# Altium schematic symbol library Pneumatics_Board_Library.SchLib: 6 symbols
Pins are listed as number, name and electrical type; pins without a type are passive.

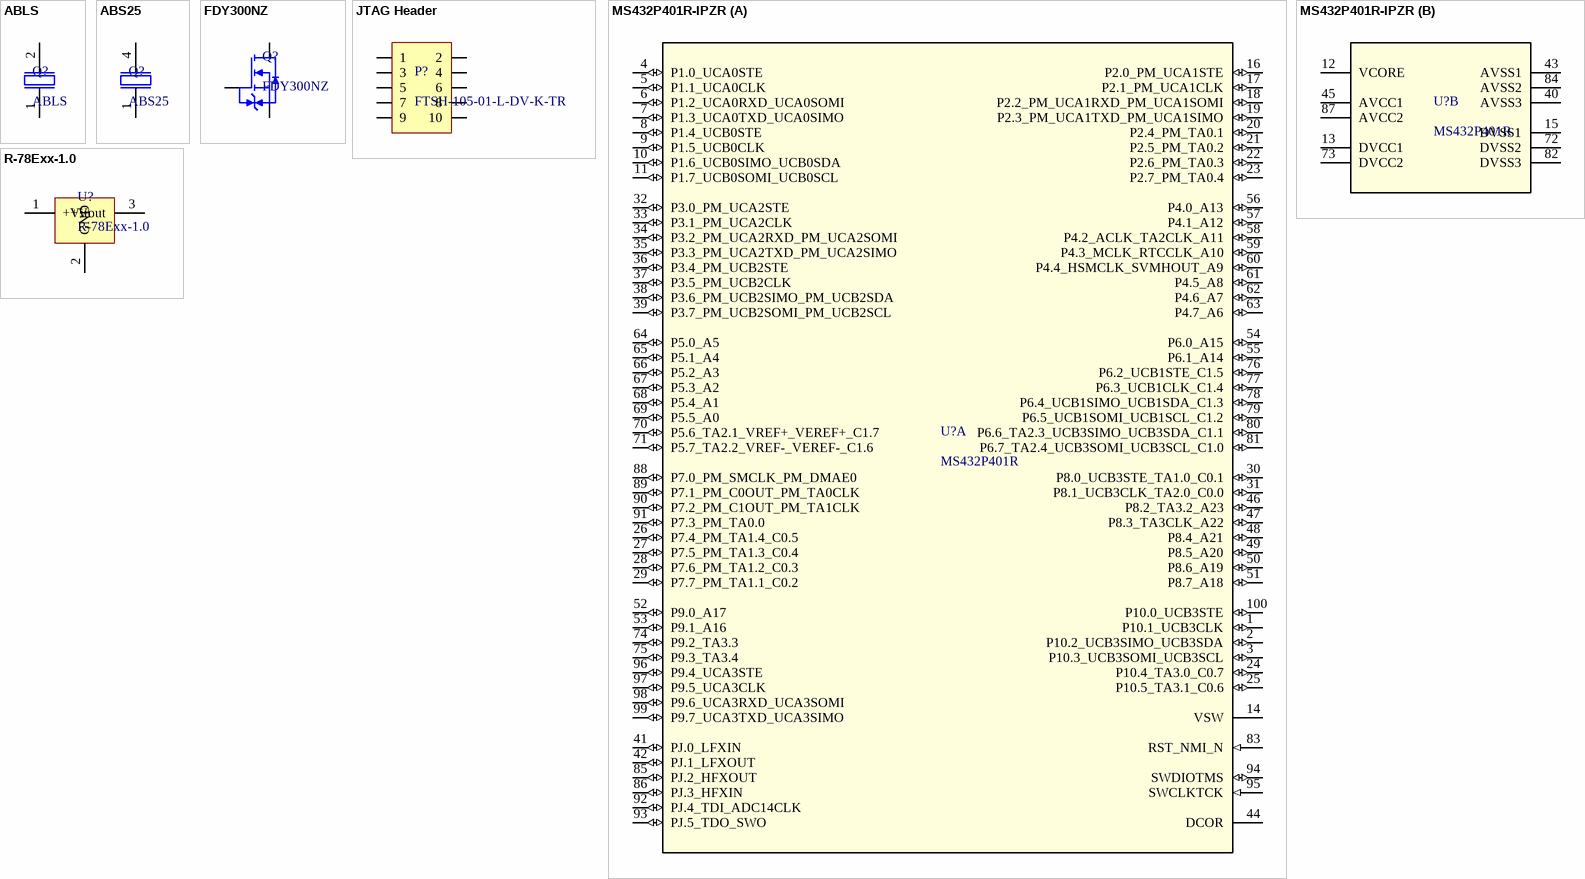
[diagram p0: symbols ABLS to R-78Exx-1.0]

## ABLS
designator Q?
SMD Low Profile Crystal - 3.579545 MHz to 75 MHz; Datasheet: https://abracon.com/Resonators/abls.pdf
footprint ABLS (SMD Low Profile Crystal - 3.579545 MHz to 75 MHz)
pins: 1, 2

## ABS25
designator Q?
32.768 kHz Low Frequency SMD Crystal; Datasheet: https://abracon.com/Resonators/abs25.pdf
footprint ABS25 (32.768 kHz Low Frequency SMD Crystal)
pins: 1, 4

## FDY300NZ
designator Q?
N-Channel 20V 600mA (Ta) 625mW (Ta) Surface Mount SC-89-3; Digikey: https://www.digikey.com/product-detail/en/on-semiconductor/FDY300NZ/FDY300NZCT-ND/1923099; Datasheet: https://www.fairchildsemi.com/datasheets/FD/FDY300NZ.pdf
footprint FDY300NZ (N-Channel 20V 600mA (Ta) 625mW (Ta) Surface Mount SC-89-3)
pins: 1 Gate, 2 Source, 3 Drain

## JTAG Header
designator P?, comment FTSH-105-01-L-DV-K-TR
CONN HEADER 10POS DUAL .05" SMD; Digikey Link: https://www.digikey.com/product-detail/en/samtec-inc/FTSH-105-01-L-DV-K-TR/SAM13165CT-ND/8827920; Drawings: http://suddendocs.samtec.com/prints/ftsh-1xx-xx-xxx-dv-xxx-xxx-mkt.pdf; Datasheet: http://suddendocs.samtec.com/catalog_english/ftsh_smt.pdf
footprint FTSH-105-01-L-DV-K-TR (CONN HEADER 10POS DUAL .05" SMD)
pins: 1, 2, 3, 4, 5, 6, 7, 8, 9, 10

## MS432P401R-IPZR
designator U?, comment MS432P401R
SimpleLink Ultra-Low-Power 32-Bit ARM Cortex-M4F MCU With Precision ADC, 256KB Flash and 64KB RAM; PartNumber: XMS432P401RIPZR; Manufacturer: Texas Instruments; CompType: IC; PIN_COUNT: 100; PackageReference: PZ0100A; MountType: SMT; RefDes: RefDes; TYPE: TYPE; Value: Value
footprint PZ0100A_M (SimpleLink Ultra-Low-Power 32-Bit ARM Cortex-M4F MCU With Precision ADC, 256KB Flash and 64KB RAM)
part A pins: 1 P10.1_UCB3CLK (io), 2 P10.2_UCB3SIMO_UCB3SDA (io), 3 P10.3_UCB3SOMI_UCB3SCL (io), 4 P1.0_UCA0STE (io), 5 P1.1_UCA0CLK (io), 6 P1.2_UCA0RXD_UCA0SOMI (io), 7 P1.3_UCA0TXD_UCA0SIMO (io), 8 P1.4_UCB0STE (io), 9 P1.5_UCB0CLK (io), 10 P1.6_UCB0SIMO_UCB0SDA (io), 11 P1.7_UCB0SOMI_UCB0SCL (io), 14 VSW, 16 P2.0_PM_UCA1STE (io), 17 P2.1_PM_UCA1CLK (io), 18 P2.2_PM_UCA1RXD_PM_UCA1SOMI (io), 19 P2.3_PM_UCA1TXD_PM_UCA1SIMO (io), 20 P2.4_PM_TA0.1 (io), 21 P2.5_PM_TA0.2 (io), 22 P2.6_PM_TA0.3 (io), 23 P2.7_PM_TA0.4 (io), 24 P10.4_TA3.0_C0.7 (io), 25 P10.5_TA3.1_C0.6 (io), 26 P7.4_PM_TA1.4_C0.5 (io), 27 P7.5_PM_TA1.3_C0.4 (io), 28 P7.6_PM_TA1.2_C0.3 (io), 29 P7.7_PM_TA1.1_C0.2 (io), 30 P8.0_UCB3STE_TA1.0_C0.1 (io), 31 P8.1_UCB3CLK_TA2.0_C0.0 (io), 32 P3.0_PM_UCA2STE (io), 33 P3.1_PM_UCA2CLK (io), 34 P3.2_PM_UCA2RXD_PM_UCA2SOMI (io), 35 P3.3_PM_UCA2TXD_PM_UCA2SIMO (io), 36 P3.4_PM_UCB2STE (io), 37 P3.5_PM_UCB2CLK (io), 38 P3.6_PM_UCB2SIMO_PM_UCB2SDA (io), 39 P3.7_PM_UCB2SOMI_PM_UCB2SCL (io), 41 PJ.0_LFXIN (io), 42 PJ.1_LFXOUT (io), 44 DCOR, 46 P8.2_TA3.2_A23 (io), 47 P8.3_TA3CLK_A22 (io), 48 P8.4_A21 (io), 49 P8.5_A20 (io), 50 P8.6_A19 (io), 51 P8.7_A18 (io), 52 P9.0_A17 (io), 53 P9.1_A16 (io), 54 P6.0_A15 (io), 55 P6.1_A14 (io), 56 P4.0_A13 (io), 57 P4.1_A12 (io), 58 P4.2_ACLK_TA2CLK_A11 (io), 59 P4.3_MCLK_RTCCLK_A10 (io), 60 P4.4_HSMCLK_SVMHOUT_A9 (io), 61 P4.5_A8 (io), 62 P4.6_A7 (io), 63 P4.7_A6 (io), 64 P5.0_A5 (io), 65 P5.1_A4 (io), 66 P5.2_A3 (io), 67 P5.3_A2 (io), 68 P5.4_A1 (io), 69 P5.5_A0 (io), 70 P5.6_TA2.1_VREF+_VEREF+_C1.7 (io), 71 P5.7_TA2.2_VREF-_VEREF-_C1.6 (io), 74 P9.2_TA3.3 (io), 75 P9.3_TA3.4 (io), 76 P6.2_UCB1STE_C1.5 (io), 77 P6.3_UCB1CLK_C1.4 (io), 78 P6.4_UCB1SIMO_UCB1SDA_C1.3 (io), 79 P6.5_UCB1SOMI_UCB1SCL_C1.2 (io), 80 P6.6_TA2.3_UCB3SIMO_UCB3SDA_C1.1 (io), 81 P6.7_TA2.4_UCB3SOMI_UCB3SCL_C1.0 (io), 83 RST_NMI_N (in), 85 PJ.2_HFXOUT (io), 86 PJ.3_HFXIN (io), 88 P7.0_PM_SMCLK_PM_DMAE0 (io), 89 P7.1_PM_C0OUT_PM_TA0CLK (io), 90 P7.2_PM_C1OUT_PM_TA1CLK (io), 91 P7.3_PM_TA0.0 (io), 92 PJ.4_TDI_ADC14CLK (io), 93 PJ.5_TDO_SWO (io), 94 SWDIOTMS (io), 95 SWCLKTCK (in), 96 P9.4_UCA3STE (io), 97 P9.5_UCA3CLK (io), 98 P9.6_UCA3RXD_UCA3SOMI (io), 99 P9.7_UCA3TXD_UCA3SIMO (io), 100 P10.0_UCB3STE (io)
part B pins: 12 VCORE (power), 13 DVCC1 (power), 15 DVSS1 (power), 40 AVSS3 (power), 43 AVSS1 (power), 45 AVCC1 (power), 72 DVSS2 (power), 73 DVCC2 (power), 82 DVSS3 (power), 84 AVSS2 (power), 87 AVCC2 (power)

## R-78Exx-1.0
designator U?
1A DC/DC Voltage Converter; Datasheet: https://www.recom-power.com/pdf/Innoline/R-78Exx-1.0.pdf; Digikey: https://www.digikey.com/product-detail/en/recom-power/R-78E3.3-1.0/945-2409-5-ND/5327711
footprint R-78Exx-1.0 (1A DC/DC Voltage Converter)
pins: 1 +Vin, 2 GND, 3 +Vout